# EAGLE library part TCM8230MD (library BoneCapeParts)
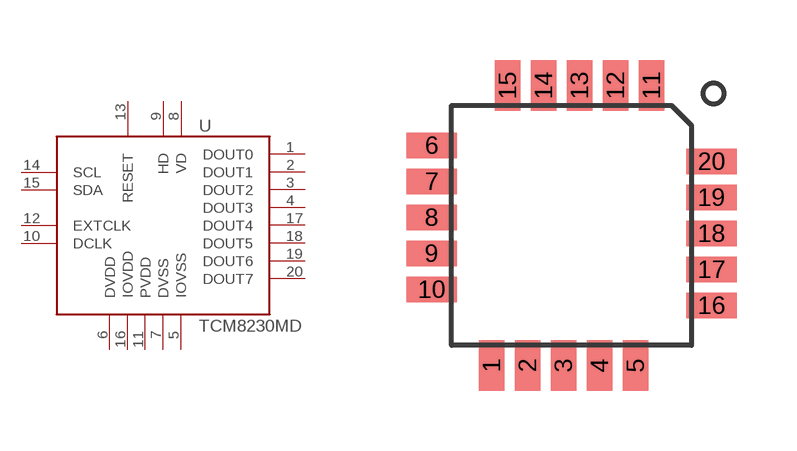
[diagram p10: symbol with the pads of TCM8230MD; footprint TCM8230MD]

Designator prefix -

## TCM8230MD  [TCM8230MD]
1  DOUT0  out
2  DOUT1  out
3  DOUT2  out
4  DOUT3  out
5  IOVSS  pwr
6  DVDD  pwr
7  DVSS  pwr
8  VD  out
9  HD  out
10  DCLK  out
11  PVDD  pwr
12  EXTCLK  in
13  RESET  in
14  SCL
15  SDA
16  IOVDD  pwr
17  DOUT4  out
18  DOUT5  out
19  DOUT6  out
20  DOUT7  out

## Footprint TCM8230MD (pad centres in mm)
smd 0.635 x 1.27: 1 -2,-3.5; 2 -1.1,-3.5; 3 -0.2,-3.5; 4 0.7,-3.5; 5 1.6,-3.5; 11 2,3.5; 12 1.1,3.5; 13 0.2,3.5; 14 -0.7,3.5; 15 -1.6,3.5
smd 1.27 x 0.635: 6 -3.5,2; 7 -3.5,1.1; 8 -3.5,0.2; 9 -3.5,-0.7; 10 -3.5,-1.6; 16 3.5,-2; 17 3.5,-1.1; 18 3.5,-0.2; 19 3.5,0.7; 20 3.5,1.6